# EAGLE library part L79L05ACD (library ST Microelectronics)
NEGATIVE VOLTAGE REGULATORS
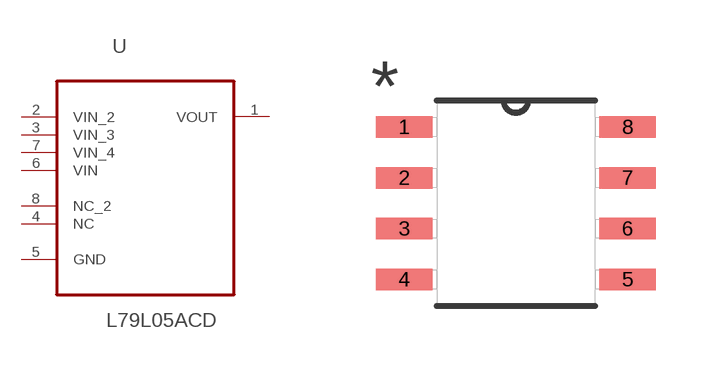
[diagram p64: symbol with the pads of SOIC127P600X175-8N; footprint SOIC127P600X175-8N]

Designator prefix U

## L79L05ACD (MPN: L79L05ACD; OC_FARNELL: 1095392; OC_NEWARK: -; PACKAGE: 8-SOIC; SUPPLIER: STMICROELECTRONICS)  [SOIC127P600X175-8N]
1  VOUT  out
2  VIN_2  in
3  VIN_3  in
4  NC  nc
5  GND  pas
6  VIN  in
7  VIN_4  in
8  NC_2  nc

## Footprint SOIC127P600X175-8N (pad centres in mm)
smd 1.422 x 0.533: 1 -2.794,1.905; 2 -2.794,0.635; 3 -2.794,-0.635; 4 -2.794,-1.905; 5 2.794,-1.905; 6 2.794,-0.635; 7 2.794,0.635; 8 2.794,1.905